# Altium schematic symbol library Tarjetas.SchLib: 1 symbol
Pins are listed as number, name and electrical type; pins without a type are passive.

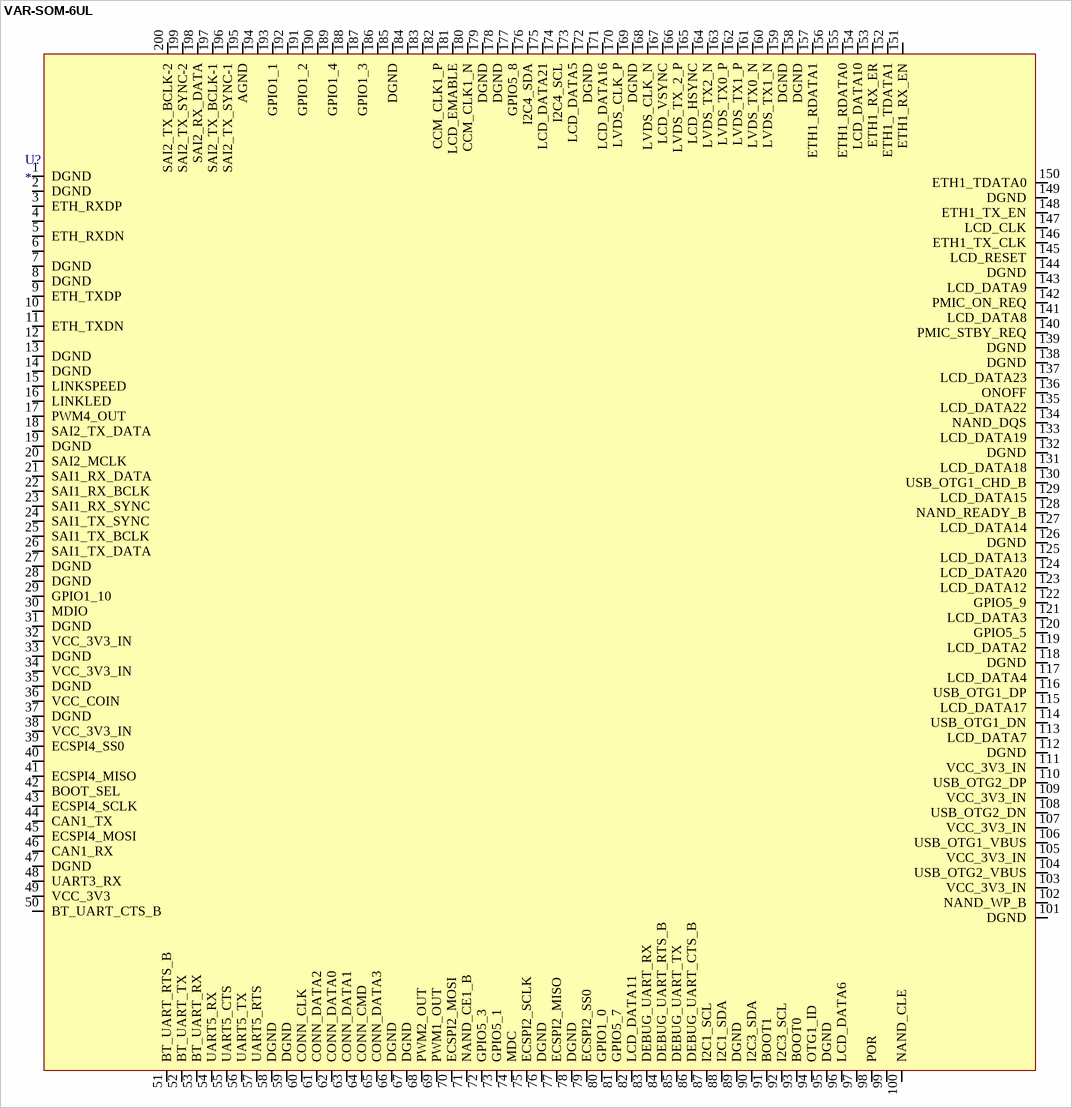
[diagram p0: symbol VAR-SOM-6UL]

## VAR-SOM-6UL
designator U?
pins: 1 DGND, 2 DGND, 3 ETH_RXDP, 4, 5 ETH_RXDN, 6, 7 DGND, 8 DGND, 9 ETH_TXDP, 10, 11 ETH_TXDN, 12, 13 DGND, 14 DGND, 15 LINKSPEED, 16 LINKLED, 17 PWM4_OUT, 18 SAI2_TX_DATA, 19 DGND, 20 SAI2_MCLK, 21 SAI1_RX_DATA, 22 SAI1_RX_BCLK, 23 SAI1_RX_SYNC, 24 SAI1_TX_SYNC, 25 SAI1_TX_BCLK, 26 SAI1_TX_DATA, 27 DGND, 28 DGND, 29 GPIO1_10, 30 MDIO, 31 DGND, 32 VCC_3V3_IN, 33 DGND, 34 VCC_3V3_IN, 35 DGND, 36 VCC_COIN, 37 DGND, 38 VCC_3V3_IN, 39 ECSPI4_SS0, 40, 41 ECSPI4_MISO, 42 BOOT_SEL, 43 ECSPI4_SCLK, 44 CAN1_TX, 45 ECSPI4_MOSI, 46 CAN1_RX, 47 DGND, 48 UART3_RX, 49 VCC_3V3, 50 BT_UART_CTS_B, 51 BT_UART_RTS_B, 52 BT_UART_TX, 53 BT_UART_RX, 54 UART5_RX, 55 UART5_CTS, 56 UART5_TX, 57 UART5_RTS, 58 DGND, 59 DGND, 60 CONN_CLK, 61 CONN_DATA2, 62 CONN_DATA0, 63 CONN_DATA1, 64 CONN_CMD, 65 CONN_DATA3, 66 DGND, 67 DGND, 68 PWM2_OUT, 69 PWM1_OUT, 70 ECSPI2_MOSI, 71 NAND_CE1_B, 72 GPIO5_3, 73 GPIO5_1, 74 MDC, 75 ECSPI2_SCLK, 76 DGND, 77 ECSPI2_MISO, 78 DGND, 79 ECSPI2_SS0, 80 GPIO1_0, 81 GPIO5_7, 82 LCD_DATA11, 83 DEBUG_UART_RX, 84 DEBUG_UART_RTS_B, 85 DEBUG_UART_TX, 86 DEBUG_UART_CTS_B, 87 I2C1_SCL, 88 I2C1_SDA, 89 DGND, 90 I2C3_SDA, 91 BOOT1, 92 I2C3_SCL, 93 BOOT0, 94 OTG1_ID, 95 DGND, 96 LCD_DATA6, 97, 98 POR, 99, 100 NAND_CLE, 101 DGND, 102 NAND_WP_B, 103 VCC_3V3_IN, 104 USB_OTG2_VBUS, 105 VCC_3V3_IN, 106 USB_OTG1_VBUS, 107 VCC_3V3_IN, 108 USB_OTG2_DN, 109 VCC_3V3_IN, 110 USB_OTG2_DP, 111 VCC_3V3_IN, 112 DGND, 113 LCD_DATA7, 114 USB_OTG1_DN, 115 LCD_DATA17, 116 USB_OTG1_DP, 117 LCD_DATA4, 118 DGND, 119 LCD_DATA2, 120 GPIO5_5, 121 LCD_DATA3, 122 GPIO5_9, 123 LCD_DATA12, 124 LCD_DATA20, 125 LCD_DATA13, 126 DGND, 127 LCD_DATA14, 128 NAND_READY_B, 129 LCD_DATA15, 130 USB_OTG1_CHD_B, 131 LCD_DATA18, 132 DGND, 133 LCD_DATA19, 134 NAND_DQS, 135 LCD_DATA22, 136 ONOFF, 137 LCD_DATA23, 138 DGND, 139 DGND, 140 PMIC_STBY_REQ, 141 LCD_DATA8, 142 PMIC_ON_REQ, 143 LCD_DATA9, 144 DGND, 145 LCD_RESET, 146 ETH1_TX_CLK, 147 LCD_CLK, 148 ETH1_TX_EN, 149 DGND, 150 ETH1_TDATA0, 151 ETH1_RX_EN, 152 ETH1_TDATA1, 153 ETH1_RX_ER, 154 LCD_DATA10, 155 ETH1_RDATA0, 156, 157 ETH1_RDATA1, 158 DGND, 159 DGND, 160 LVDS_TX1_N, 161 LVDS_TX0_N, 162 LVDS_TX1_P, 163 LVDS_TX0_P, 164 LVDS_TX2_N, 165 LCD_HSYNC, 166 LVDS_TX_2_P, 167 LCD_VSYNC, 168 LVDS_CLK_N, 169 DGND, 170 LVDS_CLK_P, 171 LCD_DATA16, 172 DGND, 173 LCD_DATA5, 174 I2C4_SCL, 175 LCD_DATA21, 176 I2C4_SDA, 177 GPIO5_8, 178 DGND, 179 DGND, 180 CCM_CLK1_N, 181 LCD_EMABLE, 182 CCM_CLK1_P, 183, 184, 185 DGND, 186, 187 GPIO1_3, 188, 189 GPIO1_4, 190, 191 GPIO1_2, 192, 193 GPIO1_1, 194, 195 AGND, 196 SAI2_TX_SYNC-1, 197 SAI2_TX_BCLK-1, 198 SAI2_RX_DATA, 199 SAI2_TX_SYNC-2, 200 SAI2_TX_BCLK-2